# EAGLE library part CY7C68013-56LFC (library cypress-fx2)
Cypress EZ-USB FX2
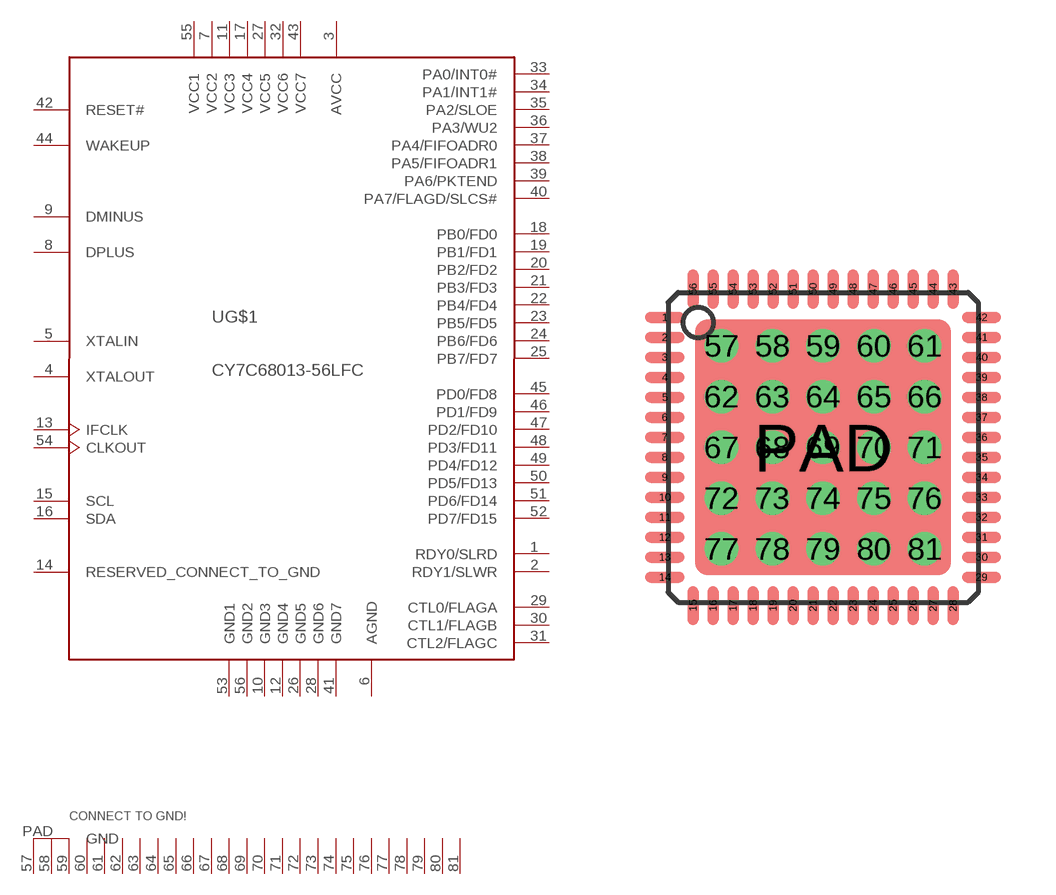
[diagram p1: symbol with the pads of QFN-56; footprint QFN-56]

Designator prefix U; gates G$1=CY7C68013 G$2=GNDPIN G$3=25GND

## CY7C68013-56LFC  [QFN-56]
1  G$1:RDY0/SLRD
2  G$1:RDY1/SLWR
3  G$1:AVCC
4  G$1:XTALOUT
5  G$1:XTALIN
6  G$1:AGND
7  G$1:VCC2
8  G$1:DPLUS
9  G$1:DMINUS
10  G$1:GND3
11  G$1:VCC3
12  G$1:GND4
13  G$1:IFCLK
14  G$1:RESERVED_CONNECT_TO_GND  in
15  G$1:SCL
16  G$1:SDA
17  G$1:VCC4
18  G$1:PB0/FD0
19  G$1:PB1/FD1
20  G$1:PB2/FD2
21  G$1:PB3/FD3
22  G$1:PB4/FD4
23  G$1:PB5/FD5
24  G$1:PB6/FD6
25  G$1:PB7/FD7
26  G$1:GND5
27  G$1:VCC5
28  G$1:GND6
29  G$1:CTL0/FLAGA
30  G$1:CTL1/FLAGB
31  G$1:CTL2/FLAGC
32  G$1:VCC6
33  G$1:PA0/INT0#
34  G$1:PA1/INT1#
35  G$1:PA2/SLOE
36  G$1:PA3/WU2
37  G$1:PA4/FIFOADR0
38  G$1:PA5/FIFOADR1
39  G$1:PA6/PKTEND
40  G$1:PA7/FLAGD/SLCS#
41  G$1:GND7
42  G$1:RESET#  in
43  G$1:VCC7
44  G$1:WAKEUP
45  G$1:PD0/FD8
46  G$1:PD1/FD9
47  G$1:PD2/FD10
48  G$1:PD3/FD11
49  G$1:PD4/FD12
50  G$1:PD5/FD13
51  G$1:PD6/FD14
52  G$1:PD7/FD15
53  G$1:GND1
54  G$1:CLKOUT  out
55  G$1:VCC1
56  G$1:GND2
57  G$3:GND  pwr
58  G$3:GND  pwr
59  G$3:GND  pwr
60  G$3:GND  pwr
61  G$3:GND  pwr
62  G$3:GND  pwr
63  G$3:GND  pwr
64  G$3:GND  pwr
65  G$3:GND  pwr
66  G$3:GND  pwr
67  G$3:GND  pwr
68  G$3:GND  pwr
69  G$3:GND  pwr
70  G$3:GND  pwr
71  G$3:GND  pwr
72  G$3:GND  pwr
73  G$3:GND  pwr
74  G$3:GND  pwr
75  G$3:GND  pwr
76  G$3:GND  pwr
77  G$3:GND  pwr
78  G$3:GND  pwr
79  G$3:GND  pwr
80  G$3:GND  pwr
81  G$3:GND  pwr
PAD  G$2:GND

## Footprint QFN-56 (pad centres in mm)
56-Lead Quad Flatpack No Lead Package (8x8mm) LF56
smd 0.99 x 0.28: 1 -3.96,3.25; 2 -3.96,2.75; 3 -3.96,2.25; 4 -3.96,1.75; 5 -3.96,1.25; 6 -3.96,0.75; 7 -3.96,0.25; 8 -3.96,-0.25; 9 -3.96,-0.75; 10 -3.96,-1.25; 11 -3.96,-1.75; 12 -3.96,-2.25; 13 -3.96,-2.75; 14 -3.96,-3.25; 29 3.96,-3.25; 30 3.96,-2.75; 31 3.96,-2.25; 32 3.96,-1.75; 33 3.96,-1.25; 34 3.96,-0.75; 35 3.96,-0.25; 36 3.96,0.25; 37 3.96,0.75; 38 3.96,1.25; 39 3.96,1.75; 40 3.96,2.25; 41 3.96,2.75; 42 3.96,3.25
smd 0.28 x 0.99: 15 -3.25,-3.96; 16 -2.75,-3.96; 17 -2.25,-3.96; 18 -1.75,-3.96; 19 -1.25,-3.96; 20 -0.75,-3.96; 21 -0.25,-3.96; 22 0.25,-3.96; 23 0.75,-3.96; 24 1.25,-3.96; 25 1.75,-3.96; 26 2.25,-3.96; 27 2.75,-3.96; 28 3.25,-3.96; 43 3.25,3.96; 44 2.75,3.96; 45 2.25,3.96; 46 1.75,3.96; 47 1.25,3.96; 48 0.75,3.96; 49 0.25,3.96; 50 -0.25,3.96; 51 -0.75,3.96; 52 -1.25,3.96; 53 -1.75,3.96; 54 -2.25,3.96; 55 -2.75,3.96; 56 -3.25,3.96
drill 0.33 round: 57 -2.54,2.54; 58 -1.27,2.54; 59 0,2.54; 60 1.27,2.54; 61 2.54,2.54; 62 -2.54,1.27; 63 -1.27,1.27; 64 0,1.27; 65 1.27,1.27; 66 2.54,1.27; 67 -2.54,0; 68 -1.27,0; 69 0,0; 70 1.27,0; 71 2.54,0; 72 -2.54,-1.27; 73 -1.27,-1.27; 74 0,-1.27; 75 1.27,-1.27; 76 2.54,-1.27; 77 -2.54,-2.54; 78 -1.27,-2.54; 79 0,-2.54; 80 1.27,-2.54; 81 2.54,-2.54
smd 6.4 x 6.4: PAD 0,0